# Altium schematic symbol library Anemoia-ESP32.SchLib: 53 symbols (part 3 of 3)
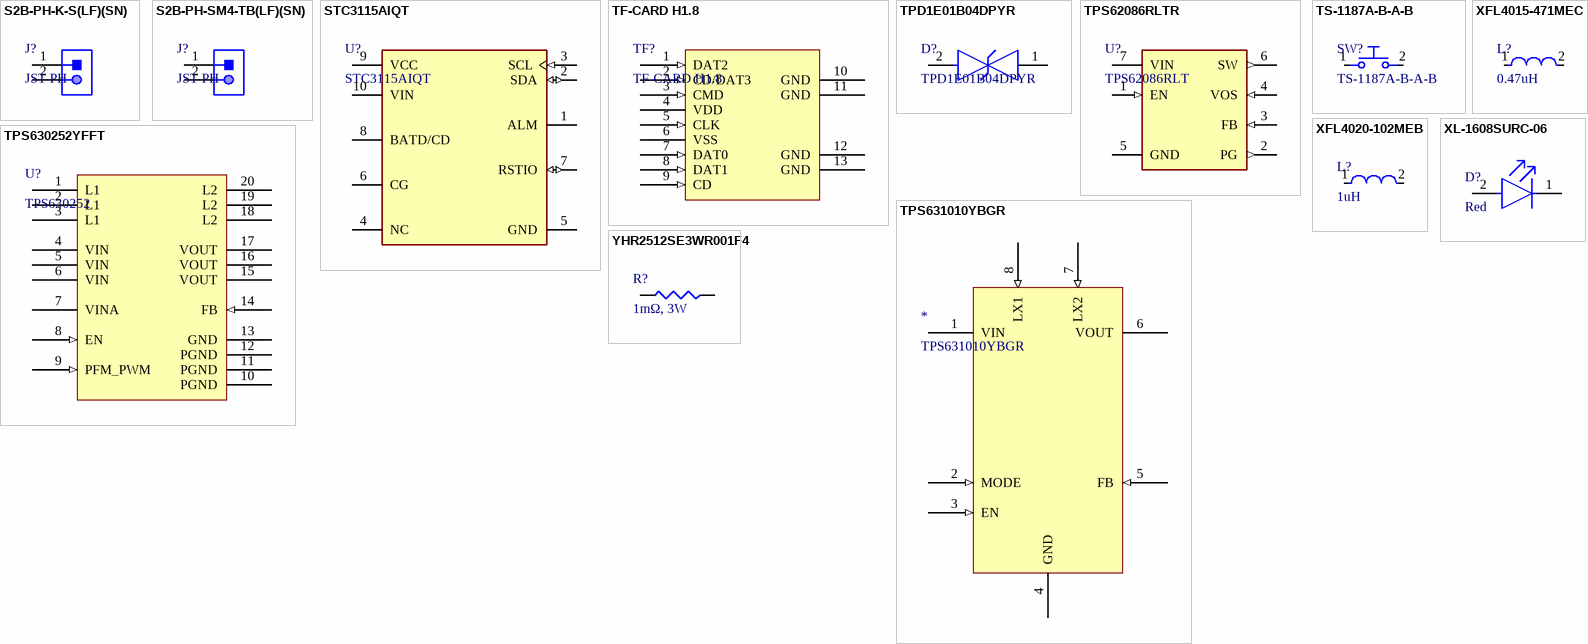
[diagram p3: symbols S2B-PH-K-S(LF)(SN) to YHR2512SE3WR001F4]

## S2B-PH-K-S(LF)(SN)
designator J?, comment JST PH
CONN HEADER TH R/A 2POS 2mm; Manufacturer Part Number: S2B-PH-K-S(LF)(SN); Capacitance: 10µF; Connector Type: Male Pin; Contact Resistance: 20mΩ; Current Rating: 2A; Gender: Male; Insulation Resistance: 1GΩ; Max Voltage Rating (AC): 100V; Number of Contacts: 2; Tolerance: 20%; Voltage Rating: 50V; Supplier 1: Arrow Electronics; Manufacturer: JST; RoHS: Compliant; Category: Headers and Wire Housings; Stock 1: 15836; Case/Package: Radial; China RoHS: Compliant; Color: Natural, White; Contact Gender: Male; Contact Material: Brass; Contact Mating Length: 3.302mm; Contact Plating: Tin; Depth: 7.6mm; Diameter: 5mm; Fastening Type: Detent; Flammability Rating: UL94 V-0; Height: 11mm; Lead Free: Lead Free; Lead Pitch: 2mm; Length: 11mm; Lifecycle Status: Production; Max Current Rating: 2A; Max Operating Temperature: 85°C; Max Voltage Rating (DC): 100V; Min Operating Temperature: -25°C; Mount: Through Hole; Number of Pins: 2; Number of Poles: 2; Number of Positions: 2; Number of Rows: 1; Orientation: Right Angle; Packaging: Bulk; Pitch: 2mm; Radiation Hardening: No; REACH SVHC: Yes; Terminal Pitch: 2mm; Termination: Solder; Voltage Rating (AC): 100V; Voltage Rating (DC): 50V; Weight: 28.349523g; Width: 4.5mm; Working Voltage: 100V; ComponentLink1URL: https://datasheet.octopart.com:443/S2B-PH-K-S%28LF%29%28SN%29-JST-datasheet-180491669.pdf?src-supplier=IHS; ComponentLink1Description: https://datasheet.octopart.com:443/S2B-PH-K-S%28LF%29%28SN%29-JST-datasheet-180491669.pdf?src-supplier=IHS; ComponentLink2URL: https://datasheet.octopart.com:443/S2B-PH-K-S%28LF%29%28SN%29-JST-datasheet-10411123.pdf?src-supplier=Upverter; ComponentLink2Description: https://datasheet.octopart.com:443/S2B-PH-K-S%28LF%29%28SN%29-JST-datasheet-10411123.pdf?src-supplier=Upverter; ComponentLink3URL: https://datasheet.octopart.com:443/S2B-PH-K-S%28LF%29%28SN%29-JST-datasheet-8324864.pdf?src-supplier=Upverter; ComponentLink3Description: https://datasheet.octopart.com:443/S2B-PH-K-S%28LF%29%28SN%29-JST-datasheet-8324864.pdf?src-supplier=Upverter; ComponentLink4URL: https://datasheet.octopart.com:443/S2B-PH-K-S%28LF%29%28SN%29-JST-datasheet-56537.pdf?src-supplier=Upverter; ComponentLink4Description: https://datasheet.octopart.com:443/S2B-PH-K-S%28LF%29%28SN%29-JST-datasheet-56537.pdf?src-supplier=Upverter; ComponentLink5URL: https://datasheet.octopart.com:443/S2B-PH-K-S%28LF%29%28SN%29-JST-datasheet-15068535.pdf?src-supplier=Upverter; ComponentLink5Description: https://datasheet.octopart.com:443/S2B-PH-K-S%28LF%29%28SN%29-JST-datasheet-15068535.pdf?src-supplier=Upverter; ComponentLink6URL: https://datasheet.octopart.com:443/S2B-PH-K-S%28LF%29%28SN%29-JST-datasheet-147762421.pdf?src-supplier=LKR; ComponentLink6Description: https://datasheet.octopart.com:443/S2B-PH-K-S%28LF%29%28SN%29-JST-datasheet-147762421.pdf?src-supplier=LKR; ComponentLink7URL: https://datasheet.octopart.com:443/S2B-PH-K-S%28LF%29%28SN%29-JST-datasheet-12510261.pdf?src-supplier=Future+Electronics; ComponentLink7Description: https://datasheet.octopart.com:443/S2B-PH-K-S%28LF%29%28SN%29-JST-datasheet-12510261.pdf?src-supplier=Future+Electronics
footprint JST-S2B-PH-K-S_V (THD, 2-Leads, Body 7.6x5.9mm, Pitch 2mm)
pins: 1, 2

## S2B-PH-SM4-TB(LF)(SN)
designator J?, comment JST PH
2P 1x2P PH Tin -25℃~+85℃ Beige 2mm 100V 2 2A 1 Surface Mount, Right Angle SMD,P=2mm,Surface Mount,Right Angle Headers, Male Pins RoHS; Manufacturer Part Number: S2B-PH-SM4-TB(LF)(SN); Contact Resistance: 20mΩ; Dielectric Material: Polyamide; Insulation Resistance: 1GΩ; Number of Contacts: 2; Supplier 1: Mouser; Manufacturer: JST; RoHS: Compliant; Category: Headers and Wire Housings; Stock 1: 28429; China RoHS: Compliant; Color: Black, White; Connector Type: Male Pin; Contact Gender: Male; Contact Material: Bronze, Copper, Tin; Contact Mating Length: 3.302mm; Contact Plating: Tin; Current Rating: 2A; Depth: 7.6mm; Fastening Type: Detent; Flammability Rating: UL94 V-0; Gender: Male; Height: 5.5mm; Housing Color: Natural; Housing Material: Nylon; Lead Free: Lead Free; Lead Pitch: 2mm; Length: 11.9mm; Lifecycle Status: Production; Material: Polyamide; Max Current Rating: 2A; Max Operating Temperature: 85°C; Max Voltage Rating (AC): 100V; Max Voltage Rating (DC): 100V; Min Operating Temperature: -25°C; Mount: Through Hole; Number of Pins: 2; Number of Poles: 2; Number of Positions: 2; Number of Rows: 1; Packaging: Bulk; Pitch: 2mm; Radiation Hardening: No; REACH SVHC: Yes; Terminal Pitch: 2mm; Termination: Crimp, Solder; Voltage Rating: 100V; Voltage Rating (AC): 100V; Voltage Rating (DC): 100V; Weight: 28.349523g; Width: 2.34mm; Working Voltage: 100V; ComponentLink1URL: https://datasheet.octopart.com:443/S2BPHSM4TBLFSN-JST-datasheet-147762421.pdf?src-supplier=Upverter; ComponentLink1Description: https://datasheet.octopart.com:443/S2BPHSM4TBLFSN-JST-datasheet-147762421.pdf?src-supplier=Upverter; ComponentLink2URL: https://datasheet.octopart.com:443/S2B-PH-SM4-TB%28LF%29%28SN%29-JST-datasheet-10411123.pdf?src-supplier=Upverter; ComponentLink2Description: https://datasheet.octopart.com:443/S2B-PH-SM4-TB%28LF%29%28SN%29-JST-datasheet-10411123.pdf?src-supplier=Upverter; ComponentLink3URL: https://datasheet.octopart.com:443/S2B-PH-SM4-TB%28LF%29%28SN%29-JST-datasheet-8324864.pdf?src-supplier=Upverter; ComponentLink3Description: https://datasheet.octopart.com:443/S2B-PH-SM4-TB%28LF%29%28SN%29-JST-datasheet-8324864.pdf?src-supplier=Upverter; ComponentLink4URL: https://datasheet.octopart.com:443/S2B-PH-SM4-TB%28LF%29%28SN%29-JST-datasheet-180491729.pdf?src-supplier=IHS; ComponentLink4Description: https://datasheet.octopart.com:443/S2B-PH-SM4-TB%28LF%29%28SN%29-JST-datasheet-180491729.pdf?src-supplier=IHS; ComponentLink5URL: https://datasheet.octopart.com:443/S2B-PH-SM4-TB%28LF%29%28SN%29-JST-datasheet-15068535.pdf?src-supplier=SOS+electronic; ComponentLink5Description: https://datasheet.octopart.com:443/S2B-PH-SM4-TB%28LF%29%28SN%29-JST-datasheet-15068535.pdf?src-supplier=SOS+electronic; ComponentLink6URL: https://datasheet.octopart.com:443/S2B-PH-SM4-TB%28LF%29%28SN%29-JST-datasheet-12510261.pdf?src-supplier=TME; ComponentLink6Description: https://datasheet.octopart.com:443/S2B-PH-SM4-TB%28LF%29%28SN%29-JST-datasheet-12510261.pdf?src-supplier=TME; ComponentLink7URL: https://datasheet.octopart.com:443/S2B-PH-SM4-TB%28LF%29%28SN%29-JST-datasheet-56537.pdf?src-supplier=Future+Electronics; ComponentLink7Description: https://datasheet.octopart.com:443/S2B-PH-SM4-TB%28LF%29%28SN%29-JST-datasheet-56537.pdf?src-supplier=Future+Electronics; ComponentLink8URL: https://datasheet.octopart.com:443/S2B-PH-SM4-TB-%28LF%29%28SN%29-JST-datasheet-165061721.pdf?src-supplier=Burklin+Elektronik; ComponentLink8Description: https://datasheet.octopart.com:443/S2B-PH-SM4-TB-%28LF%29%28SN%29-JST-datasheet-165061721.pdf?src-supplier=Burklin+Elektronik; ComponentLink9URL: https://datasheet.octopart.com:443/S2B-PH-SM4-TB%28LF%29%28SN%29-JST-datasheet-515537.pdf?src-supplier=Farnell; ComponentLink9Description: https://datasheet.octopart.com:443/S2B-PH-SM4-TB%28LF%29%28SN%29-JST-datasheet-515537.pdf?src-supplier=Farnell; ComponentLink10URL: https://datasheet.octopart.com:443/S2B-PH-SM4-TB-%28LF%29-%28SN%29-JST-datasheet-159515011.pdf?src-supplier=Amar+Radio+Corporation; ComponentLink10Description: https://datasheet.octopart.com:443/S2B-PH-SM4-TB-%28LF%29-%28SN%29-JST-datasheet-159515011.pdf?src-supplier=Amar+Radio+Corporation
footprint JST_S2B-PH-SM4-TB(LF)(SN)
pins: 1, 2

## STC3115AIQT
designator U?
Battery Fuel Gauge, Li-Ion, Li-Pol, 2.7V to 4.2V Supply, I2C Interface, DFN-10; Manufacturer: STMicroelectronics; Max Junction Temperature (Tj): 150°C; Max Supply Voltage: 4.5V; Nominal Supply Current: 45µA; Number of Cells: 1; Operating Supply Voltage: 3.6V; Supplier 1: DigiKey; Manufacturer Part Number: STC3115AIQT; RoHS: Compliant; Category: Battery Management; Stock 1: 3658; Ambient Temperature Range High: 85°C; Case/Package: DFN; China RoHS: Compliant; Height: 600µm; Height - Seated (Max): 600µm; Interface: I2C; Lead Free: Lead Free; Length: 3mm; Lifecycle Status: Production; Max Operating Temperature: 85°C; Min Operating Temperature: -40°C; Min Supply Voltage: 2.7V; Mount: Surface Mount; Number of Channels: 1; Number of Circuits: 1; Number of Outputs: 1; Number of Pins: 10; Number of Terminals: 10; Operating Supply Current: 45µA; Output Voltage: 4.2V; REACH SVHC: Yes; Schedule B: 8542390000, 8542390000|8542390000|8542390000|8542390000|8542390000|8542390000|8542390000|8542390000|8542390000|8542390000|8542390000|8542390000|8542390000|8542390000|8542390000|8542390000|8542390000|8542390000|8542390000|8542390000|8542390000|8542390000|8542390000|85; Terminal Pitch: 500µm; Weight: 50.008559mg; Width: 2mm; ComponentLink1URL: https://datasheet.octopart.com:443/STC3115AIQT-STMicroelectronics-datasheet-62335364.pdf?src-supplier=SHENGYU+ELECTRONICS; ComponentLink1Description: https://datasheet.octopart.com:443/STC3115AIQT-STMicroelectronics-datasheet-62335364.pdf?src-supplier=SHENGYU+ELECTRONICS; ComponentLink2URL: https://datasheet.octopart.com:443/STC3115AIQT-STMicroelectronics-datasheet-16348456.pdf?src-supplier=Future+Electronics; ComponentLink2Description: https://datasheet.octopart.com:443/STC3115AIQT-STMicroelectronics-datasheet-16348456.pdf?src-supplier=Future+Electronics
footprint DFN-10(2x3)
pins: 1 ALM (oc), 2 SDA (io), 3 SCL (in), 4 NC, 5 GND (power), 6 CG, 7 RSTIO (io), 8 BATD/CD, 9 VCC (power), 10 VIN

## TF-CARD H1.8
designator TF?
Push-Push 1.8mm MicroSD Card (TF Card) SMD PC Card Sockets RoHS
footprint TF-CARD H1.8
pins: 1 DAT2 (in), 2 CD/DAT3 (in), 3 CMD (in), 4 VDD (power), 5 CLK (in), 6 VSS (power), 7 DAT0 (in), 8 DAT1 (in), 9 CD (in), 10 GND (power), 11 GND (power), 12 GND (power), 13 GND (power)

## TPD1E01B04DPYR
designator D?
3.6VWM 9VC X1SON-2(0.6x1)
footprint X1-SON-2
pins: 1 IO, 2 GND

## TPS62086RLTR
designator U?, comment TPS62086RLT
2.4MHz Buck 3A Fixed 3.3V 1 VSON-7(2x2) Voltage Regulators - DC DC Switching Regulators RoHS; Manufacturer: Texas Instruments; Manufacturer Part Number: TPS62086RLTR; Manufacturer Lifecycle Status: ACTIVE; Efficiency: 95%; Max Duty Cycle: 100%; Max Input Voltage: 6V; Max Junction Temperature (Tj): 125°C; Min Input Voltage: 2.5V; Nominal Supply Current: 17µA; Number of Outputs: 1; Output Configuration: Positive; Synchronous Rectifier: Yes; Supplier 1: DigiKey; RoHS: Compliant; Category: Voltage Regulators - Switching; Stock 1: 149; Case/Package: VQFN; Height: 1mm; Lead Free: Lead Free; Length: 2mm; Lifecycle Status: Production; Max Operating Temperature: 125°C; Max Output Current: 3A; Max Supply Voltage: 6V; Min Operating Temperature: -40°C; Min Output Voltage: 3.3V; Min Supply Voltage: 2.5V; Mount: Surface Mount; Number of Pins: 7; Operating Supply Voltage: 6V; Output Current: 3A; Output Type: Fixed; Output Voltage: 3.3V; Packaging: Tape & Reel (TR); Radiation Hardening: No; Schedule B: 8542390000, 8542390000|8542390000|8542390000|8542390000|8542390000; Switching Frequency: 2.4MHz; Thickness: 900µm; Topology: Buck; Width: 2mm; ComponentLink1URL: https://octopart.com:443/opatz8j6/c1?t=zLf386fj0ibO5NaoSy2k8jd9nPNwEci5YYQicrbra0aFWFytLsUdbb0hTUDDaANyQQwBDYr7V3QKionmdZsJJXUYtB0NJgYjWz6oQuqaUgS5j9X-IyE01ALEJilTv_Q5C8KDVlxq14opzcnp7e_8Z4Mt-FTf3BrnMs1wWLAliJmyVZc25-BOlLyFKzDSwYyB2OqCuUck4xbtoc4mzyJqMrEioRwdgPXnEEA5Fpne0hjuF2kVbuuQmyzQeTHLPqQbzh6zJgaGUw7h6LtPvYTOUam0V6jMwSPu6xRcMnLbqQAHLiEwM3xTlXESrJQ9Z8a77dbxqkQD7BdH-9uuMFmviXkyeikfzgO4zKLpPyqxQRTxO0Tumvj-BoCeSJR17CuUm98-PX99&src-supplier=Texas+Instruments; ComponentLink1Description: https://octopart.com:443/opatz8j6/c1?t=zLf386fj0ibO5NaoSy2k8jd9nPNwEci5YYQicrbra0aFWFytLsUdbb0hTUDDaANyQQwBDYr7V3QKionmdZsJJXUYtB0NJgYjWz6oQuqaUgS5j9X-IyE01ALEJilTv_Q5C8KDVlxq14opzcnp7e_8Z4Mt-FTf3BrnMs1wWLAliJmyVZc25-BOlLyFKzDSwYyB2OqCuUck4xbtoc4mzyJqMrEioRwdgPXnEEA5Fpne0hjuF2kVbuuQmyzQeTHLPqQbzh6zJgaGUw7h6LtPvYTOUam0V6jMwSPu6xRcMnLbqQAHLiEwM3xTlXESrJQ9Z8a77dbxqkQD7BdH-9uuMFmviXkyeikfzgO4zKLpPyqxQRTxO0Tumvj-BoCeSJR17CuUm98-PX99&src-supplier=Texas+Instruments; ComponentLink2URL: https://sigma.octopart.com:443/62099402/technical_drawing/Texas-Instruments-TPS62086RLTR.pdf?src-supplier=Texas+Instruments; ComponentLink2Description: https://sigma.octopart.com:443/62099402/technical_drawing/Texas-Instruments-TPS62086RLTR.pdf?src-supplier=Texas+Instruments; ComponentLink3URL: https://datasheet.octopart.com:443/TPS62086RLTR-Texas-Instruments-datasheet-41218635.pdf?src-supplier=Texas+Instruments; ComponentLink3Description: https://datasheet.octopart.com:443/TPS62086RLTR-Texas-Instruments-datasheet-41218635.pdf?src-supplier=Texas+Instruments; ComponentLink4URL: https://sigma.octopart.com:443/49261848/technical_drawing/Texas-Instruments-TPS62086RLTR.pdf?src-supplier=Texas+Instruments; ComponentLink4Description: https://sigma.octopart.com:443/49261848/technical_drawing/Texas-Instruments-TPS62086RLTR.pdf?src-supplier=Texas+Instruments; ComponentLink5URL: https://datasheet.octopart.com:443/TPS62086RLTR-Texas-Instruments-datasheet-21096292.pdf?src-supplier=Texas+Instruments; ComponentLink5Description: https://datasheet.octopart.com:443/TPS62086RLTR-Texas-Instruments-datasheet-21096292.pdf?src-supplier=Texas+Instruments; ComponentLink6URL: https://datasheet.octopart.com:443/TPS62086RLTR-Texas-Instruments-datasheet-148807817.pdf?src-supplier=Upverter; ComponentLink6Description: https://datasheet.octopart.com:443/TPS62086RLTR-Texas-Instruments-datasheet-148807817.pdf?src-supplier=Upverter; ComponentLink7URL: https://datasheet.octopart.com:443/TPS62086RLTR-Texas-Instruments-datasheet-165804823.pdf?src-supplier=LCSC; ComponentLink7Description: https://datasheet.octopart.com:443/TPS62086RLTR-Texas-Instruments-datasheet-165804823.pdf?src-supplier=LCSC; ComponentLink8URL: https://datasheet.octopart.com:443/TPS62086RLTR-Texas-Instruments-datasheet-159118203.pdf?src-supplier=LCSC; ComponentLink8Description: https://datasheet.octopart.com:443/TPS62086RLTR-Texas-Instruments-datasheet-159118203.pdf?src-supplier=LCSC; ComponentLink9URL: https://datasheet.octopart.com:443/TPS62086RLTR-Texas-Instruments-datasheet-140571925.pdf?src-supplier=Arrow.cn; ComponentLink9Description: https://datasheet.octopart.com:443/TPS62086RLTR-Texas-Instruments-datasheet-140571925.pdf?src-supplier=Arrow.cn; ComponentLink10URL: http://sigma.octopart.com:80/conflict_mineral_statement/Texas-Instruments-company-63.pdf?src-supplier=Compliance+Statements; ComponentLink10Description: http://sigma.octopart.com:80/conflict_mineral_statement/Texas-Instruments-company-63.pdf?src-supplier=Compliance+Statements; ComponentLink11URL: http://sigma.octopart.com:80/reach_statement/Texas-Instruments-company-64.pdf?src-supplier=Compliance+Statements; ComponentLink11Description: http://sigma.octopart.com:80/reach_statement/Texas-Instruments-company-64.pdf?src-supplier=Compliance+Statements
footprint VSON-7(2x2)
pins: 1 EN (in), 2 PG (out), 3 FB (in), 4 VOS (in), 5 GND (power), 6 SW (out), 7 VIN (power)

## TPS630252YFFT
designator U?, comment TPS630252
2.5MHz Buck-Boost 2A Fixed 3.3V 1 DSBGA-20 Voltage Regulators - DC DC Switching Regulators RoHS; Manufacturer: Texas Instruments; Manufacturer Part Number: TPS630252YFFT; Manufacturer Lifecycle Status: ACTIVE; Efficiency: 97%; Max Input Voltage: 5.5V; Min Input Voltage: 2.3V; Number of Outputs: 1; Output Configuration: Positive; Quiescent Current: 35µA; Synchronous Rectifier: Yes; Supplier 1: DigiKey; RoHS: Compliant; Category: Voltage Regulators - Switching; Stock 1: 356; Height: 625µm; Lead Free: Lead Free; Length: 0m; Lifecycle Status: Production; Max Operating Temperature: 85°C; Min Operating Temperature: -40°C; Min Output Voltage: 3.3V; Min Supply Voltage: 2.3V; Mount: Surface Mount; Nominal Output Voltage: 3.3V; Number of Pins: 20; Operating Supply Voltage: 5.5V; Output Current: 2A; Output Type: Fixed; Output Voltage: 3.3V; Radiation Hardening: No; REACH SVHC: No; Schedule B: 8542390000; Switching Frequency: 2.5MHz; Thickness: 400µm; Topology: Buck-Boost; Width: 0m; ComponentLink1URL: https://datasheet.octopart.com:443/TPS630252YFFT-Texas-Instruments-datasheet-41218668.pdf?src-supplier=Texas+Instruments; ComponentLink1Description: https://datasheet.octopart.com:443/TPS630252YFFT-Texas-Instruments-datasheet-41218668.pdf?src-supplier=Texas+Instruments; ComponentLink2URL: https://octopart.com:443/opatz8j6/c1?t=zPEUrXtanfyB8tHl3Yrxgff1_pgahT1CXxew4GMhziChqLCgFp2qyTsYCW9l3x_t9gLGB6HvJU0rSE9TToE60tDGoUSzGSeXplrXJIUKi8AMC_a_g6LiWGubqUic6H0Pp8gJV_uFqE1YEysrsAH2dJ_fi0TsfEd10d819iD38OGwA7tzILVFpr5Ydtu5A6ixM9-BYHagTcAnHZb8CwI31TaIc-mArF13RSyrpG4D9kTI2hGx6Je9uJKLkxyQ8dCS1dy9la37Qiv9qDpf-N0hd5cghrfbRiM7KYzQh0S8w0R-DiUR82PVOUP2vLOL-FrEmMQr5T8oj_1TcQVy9d5TyRy63dhvcUIC77WZYXJNJ5Ls01f1NnM1RKuHhuyaW-GmUzyOd24M&src-supplier=Texas+Instruments; ComponentLink2Description: https://octopart.com:443/opatz8j6/c1?t=zPEUrXtanfyB8tHl3Yrxgff1_pgahT1CXxew4GMhziChqLCgFp2qyTsYCW9l3x_t9gLGB6HvJU0rSE9TToE60tDGoUSzGSeXplrXJIUKi8AMC_a_g6LiWGubqUic6H0Pp8gJV_uFqE1YEysrsAH2dJ_fi0TsfEd10d819iD38OGwA7tzILVFpr5Ydtu5A6ixM9-BYHagTcAnHZb8CwI31TaIc-mArF13RSyrpG4D9kTI2hGx6Je9uJKLkxyQ8dCS1dy9la37Qiv9qDpf-N0hd5cghrfbRiM7KYzQh0S8w0R-DiUR82PVOUP2vLOL-FrEmMQr5T8oj_1TcQVy9d5TyRy63dhvcUIC77WZYXJNJ5Ls01f1NnM1RKuHhuyaW-GmUzyOd24M&src-supplier=Texas+Instruments; ComponentLink3URL: https://datasheet.octopart.com:443/TPS630252YFFT-Texas-Instruments-datasheet-26589208.pdf?src-supplier=Texas+Instruments; ComponentLink3Description: https://datasheet.octopart.com:443/TPS630252YFFT-Texas-Instruments-datasheet-26589208.pdf?src-supplier=Texas+Instruments; ComponentLink4URL: https://datasheet.octopart.com:443/TPS630252YFFT-Texas-Instruments-datasheet-26524847.pdf?src-supplier=Texas+Instruments; ComponentLink4Description: https://datasheet.octopart.com:443/TPS630252YFFT-Texas-Instruments-datasheet-26524847.pdf?src-supplier=Texas+Instruments; ComponentLink5URL: https://sigma.octopart.com:443/49250733/technical_drawing/Texas-Instruments-TPS630252YFFT.pdf?src-supplier=Texas+Instruments; ComponentLink5Description: https://sigma.octopart.com:443/49250733/technical_drawing/Texas-Instruments-TPS630252YFFT.pdf?src-supplier=Texas+Instruments; ComponentLink6URL: https://datasheet.octopart.com:443/TPS630252YFFT-Texas-Instruments-datasheet-38430161.pdf?src-supplier=Newark; ComponentLink6Description: https://datasheet.octopart.com:443/TPS630252YFFT-Texas-Instruments-datasheet-38430161.pdf?src-supplier=Newark; ComponentLink7URL: https://datasheet.octopart.com:443/TPS630252YFFT-Texas-Instruments-datasheet-28814942.pdf?src-supplier=Newark; ComponentLink7Description: https://datasheet.octopart.com:443/TPS630252YFFT-Texas-Instruments-datasheet-28814942.pdf?src-supplier=Newark; ComponentLink8URL: https://datasheet.octopart.com:443/TPS630252YFFT-Texas-Instruments-datasheet-66810025.pdf?src-supplier=Newark; ComponentLink8Description: https://datasheet.octopart.com:443/TPS630252YFFT-Texas-Instruments-datasheet-66810025.pdf?src-supplier=Newark; ComponentLink9URL: https://datasheet.octopart.com:443/TPS630252YFFT-Texas-Instruments-datasheet-62285186.pdf?src-supplier=Newark; ComponentLink9Description: https://datasheet.octopart.com:443/TPS630252YFFT-Texas-Instruments-datasheet-62285186.pdf?src-supplier=Newark; ComponentLink10URL: https://datasheet.octopart.com:443/TPS630252YFFT-Texas-Instruments-datasheet-48598350.pdf?src-supplier=Newark; ComponentLink10Description: https://datasheet.octopart.com:443/TPS630252YFFT-Texas-Instruments-datasheet-48598350.pdf?src-supplier=Newark; ComponentLink11URL: https://datasheet.octopart.com:443/TPS630252YFFT-Texas-Instruments-datasheet-62116121.pdf?src-supplier=element14+APAC; ComponentLink11Description: https://datasheet.octopart.com:443/TPS630252YFFT-Texas-Instruments-datasheet-62116121.pdf?src-supplier=element14+APAC; ComponentLink12URL: http://sigma.octopart.com:80/conflict_mineral_statement/Texas-Instruments-company-63.pdf?src-supplier=Compliance+Statements; ComponentLink12Description: http://sigma.octopart.com:80/conflict_mineral_statement/Texas-Instruments-company-63.pdf?src-supplier=Compliance+Statements; ComponentLink13URL: http://sigma.octopart.com:80/reach_statement/Texas-Instruments-company-64.pdf?src-supplier=Compliance+Statements; ComponentLink13Description: http://sigma.octopart.com:80/reach_statement/Texas-Instruments-company-64.pdf?src-supplier=Compliance+Statements
pins: 1 L1 (power), 2 L1 (power), 3 L1 (power), 4 VIN (power), 5 VIN (power), 6 VIN (power), 7 VINA (power), 8 EN (in), 9 PFM_PWM (in), 10 PGND (power), 11 PGND (power), 12 PGND (power), 13 GND (power), 14 FB (in), 15 VOUT (power), 16 VOUT (power), 17 VOUT (power), 18 L2 (power), 19 L2 (power), 20 L2 (power)

## TPS631010YBGR
designator *
IC REG BUCK BST ADJ 1.5A 8DSBGA; Manufacturer: Texas Instruments; Manufacturer Lifecycle Status: ACTIVE; Topology: Buck-Boost; Supplier 1: DigiKey; Manufacturer Part Number: TPS631010YBGR; RoHS: Compliant; Category: Voltage Regulators - Switching; Stock 1: 28230; Pricing 1: 1=1.47, 10=1.07, 25=0.9704, 100=0.8613, 250=0.80928, 500=0.7779, 1000=0.75205 (USD); Height: 500µm; Length: 1.2mm; Lifecycle Status: Production; Number of Pins: 8; Thickness: 254µm; Width: 800µm; ComponentLink1URL: https://sigma.octopart.com:443/155720082/technical_drawing/Texas-Instruments-TPS631010YBGR.pdf?src-supplier=Texas+Instruments; ComponentLink1Description: https://sigma.octopart.com:443/155720082/technical_drawing/Texas-Instruments-TPS631010YBGR.pdf?src-supplier=Texas+Instruments; ComponentLink2URL: https://octopart.com:443/opatz8j6/c1?t=mueFsUjSieWqI7MEv58J5lM7-bSLofUmT0m7L5HidvtwwP3fkxDuka8s_5xgTN2h2kG3tGF5kXu81T7iekhm-A9ywoToFTklZiqI__0ofSi8zO6J5RzsejDnoT6IKPJry10iGIqyn6quoNzEFNUlbSBGeRIp9tNwpSgFcNmPPAROkLE7GqjuhUaWSjGCyksc1CTFRAKXy54cbjVV7lBR6dD2hNJ8WE2PMHQMcN9zdCFoglIpHtef4fg_l_PQaQbQCPQx3Srnp8NVFbwbze27aHVJ_HjQswbbTM4bm37YyesVZJ4VnsoLjCcW56bqISPeZubzl0DhsW7Ano7-suYpIc4qNpjLvw-Y8u923OLDvwnW1tbRUpzsYEyxon7ufl1FyCTqMhgRiCg&src-supplier=Texas+Instruments; ComponentLink2Description: https://octopart.com:443/opatz8j6/c1?t=mueFsUjSieWqI7MEv58J5lM7-bSLofUmT0m7L5HidvtwwP3fkxDuka8s_5xgTN2h2kG3tGF5kXu81T7iekhm-A9ywoToFTklZiqI__0ofSi8zO6J5RzsejDnoT6IKPJry10iGIqyn6quoNzEFNUlbSBGeRIp9tNwpSgFcNmPPAROkLE7GqjuhUaWSjGCyksc1CTFRAKXy54cbjVV7lBR6dD2hNJ8WE2PMHQMcN9zdCFoglIpHtef4fg_l_PQaQbQCPQx3Srnp8NVFbwbze27aHVJ_HjQswbbTM4bm37YyesVZJ4VnsoLjCcW56bqISPeZubzl0DhsW7Ano7-suYpIc4qNpjLvw-Y8u923OLDvwnW1tbRUpzsYEyxon7ufl1FyCTqMhgRiCg&src-supplier=Texas+Instruments; ComponentLink3URL: http://sigma.octopart.com:80/conflict_mineral_statement/Texas-Instruments-company-63.pdf?src-supplier=Compliance+Statements; ComponentLink3Description: http://sigma.octopart.com:80/conflict_mineral_statement/Texas-Instruments-company-63.pdf?src-supplier=Compliance+Statements; ComponentLink4URL: http://sigma.octopart.com:80/reach_statement/Texas-Instruments-company-64.pdf?src-supplier=Compliance+Statements; ComponentLink4Description: http://sigma.octopart.com:80/reach_statement/Texas-Instruments-company-64.pdf?src-supplier=Compliance+Statements
pins: 1 VIN (power), 2 MODE (in), 3 EN (in), 4 GND (power), 5 FB (in), 6 VOUT (power), 7 LX2 (in), 8 LX1 (in)

## TS-1187A-B-A-B
designator SW?
Without Bracket 5.1mm 12V 5.1mm Round Button No SPST 50mA SMD-4P,5.1x5.1mm Tactile Switches RoHS
footprint SWITCH TACTILE SMD-4P,5.1x5.1mm
pins: 1, 2

## XFL4015-471MEC
designator L?, comment 0.47uH
FIXED IND 470nH SMD,4x4mm
footprint SMD,4x4mm
pins: 1, 2

## XFL4020-102MEB
designator L?, comment 1uH
Power Inductance 10.8mΩ 1µH ±20% 8A 64MHz IND_4X4MM_SM
pins: 1, 2

## XL-1608SURC-06
designator D?, comment Red
LED RED WATER CLEAR 0603 SMD
footprint Red LED 0603
pins: 1 C, 2 A

## YHR2512SE3WR001F4
designator R?, comment 1mΩ, 3W
RES 1mΩ ±1% 3W 2512
footprint RES 2512
pins: 1, 2